# Altium footprint library 613012243121.PcbLib: 1 footprints
Each footprint in its own frame and in the unit in brackets; x right, y up, seen from the top. Pads: shape width x height; smd on the part's side, far side on the other; paste and mask are expansions set on the pad; w line width, h text height; cw(c..) or ccw(c..) is an arc to the next point about the centre after c.
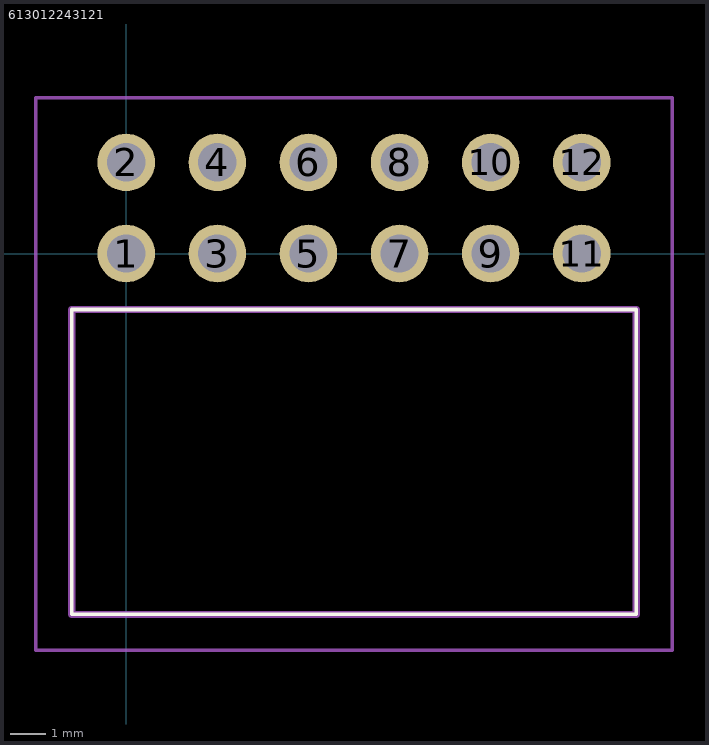
[diagram p0: the footprint, top view; thin cyan lines are the x and y axes]

## 613012243121 [mm]
pads (12):
  round 1.605 hole 1.07: 1(0,0) 2(0,2.54) 3(2.54,0) 4(2.54,2.54) 5(5.08,0) 6(5.08,2.54) 7(7.62,0) 8(7.62,2.54) 9(10.16,0) 10(10.16,2.54) 11(12.7,0) 12(12.7,2.54)
Top Overlay:
  lines w0.1: -1.52,-10.06 14.22,-10.06 14.22,-1.56 -1.52,-1.56 -1.52,-10.06
Mechanical 15:
  lines w0.2: -1.52,-10.06 14.22,-10.06 14.22,-1.56 -1.52,-1.56 -1.52,-10.06
Mechanical 20:
  lines w0.1: -2.52,-11.06 15.22,-11.06 15.22,4.342 -2.52,4.342 -2.52,-11.06